# Altium footprint library General.PcbLib: 39 footprints (part 2 of 3)
Each footprint in its own frame and in the unit in brackets; x right, y up, seen from the top. Pads: shape width x height; smd on the part's side, far side on the other; paste and mask are expansions set on the pad; w line width, h text height; cw(c..) or ccw(c..) is an arc to the next point about the centre after c.
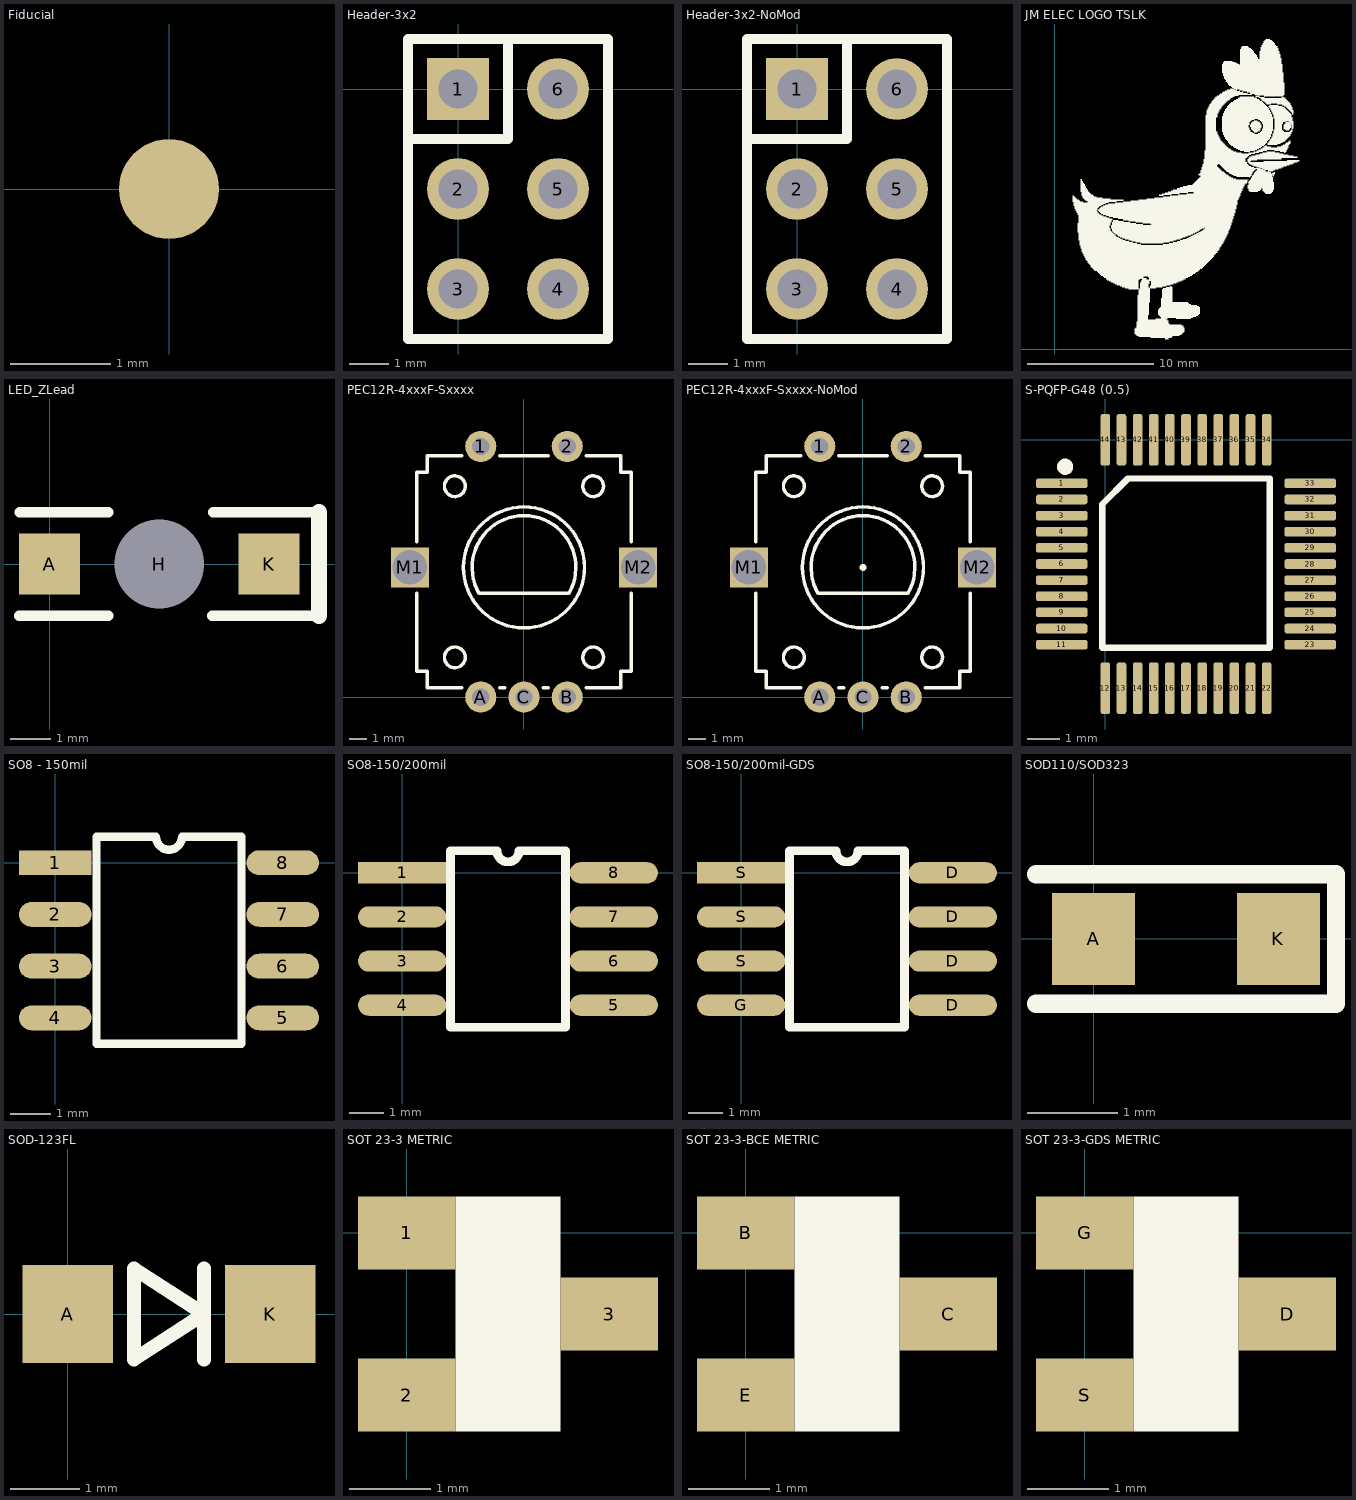
[diagram p1: the footprints below, top view; thin cyan lines are the x and y axes]

## Fiducial [mm]
pads (1):
  round 1 smd paste-1 mask+0.5: ""(0,0)
Top Solder:
  rectangle: -1.5,-1.5 1.5,1.5

## Header-3x2 [mil] "0.1 Inch Header, 2 Row, 3 Way"
pads (6):
  rect 62x62 hole 39: 1(0,0)
  round 62 hole 39: 2(0,-100) 3(0,-200) 4(100,-200) 5(100,-100) 6(100,0)
Top Overlay:
  lines w10: -50,-50 50,-50 50,50 ; 50,50 150,50 150,-250 -50,-250 -50,50 50,50
3D body "User Library-2x3 TH Pitch 2_54mm.STEP": height 362.2, standoff -137.8, extent -51,-251 149,49

## Header-3x2-NoMod [mil] "0.1 Inch Header, 2 Row, 3 Way"
pads (6):
  rect 62x62 hole 39: 1(0,0)
  round 62 hole 39: 2(0,-100) 3(0,-200) 4(100,-200) 5(100,-100) 6(100,0)
Top Overlay:
  lines w10: -50,-50 50,-50 50,50 ; 50,50 -50,50 -50,-250 150,-250 150,50 50,50
3D body "User Library-2x3 TH Pitch 2_54mm.STEP": height 362.2, standoff -137.8, extent -51,-251 149,49

## JM ELEC LOGO TSLK [mm] "JM LOGO on top silk layer"
Top Overlay:
  drawing of 4 lines, arcs and shapes, not listed

## LED_ZLead [mm] "5.4mm Pad Cen-Cen, 1.5mmx1.5mm Pad size"
pads (3):
  rect 1.5x1.5 smd: A(0,0) K(5.4,0)
  round 1.524 hole 2.2 unplated: H(2.7,0)
Top Overlay:
  lines w0.254: -0.75,-1.27 1.45,-1.27 ; -0.73,1.27 1.45,1.27 ; 4,-1.27 6.625,-1.27 ; 4.02,1.27 6.625,1.27
  lines w0.4: 6.625,-1.27 6.625,1.27
3D body "AM2520-9.STEP": height 1.4, standoff -1.4, extent -0.15,-1 5.65,1

## PEC12R-4xxxF-Sxxxx [mm] "Burns 12mmx13mm rotary encoder, vertical, with switch"
pads (7):
  round 1.8 hole 1: 1(-2.5,14.5) 2(2.5,14.5) A(-2.5,0) B(2.5,0) C(0,0)
  rect 2.2x2.3 hole 2 square: M1(-6.6,7.5) M2(6.6,7.5)
Top Overlay:
  circle w0.2: c-4,12.2 r0.6
  circle w0.2: c4,12.2 r0.6
  circle w0.2: c4,2.3 r0.6
  circle w0.2: c-4,2.3 r0.6
  circle w0.2: c0,7.5 r3.5
  region: -4.4,2.4
  region: -9.6,16.3
  lines w0.2: -6.2,6.003 -6.2,1.5 -5.6,1.5 -5.6,0.55 -3.6,0.55 ; -6.2,9 -6.2,13 -5.6,13 -5.6,13.95 -3.6,13.95 ; -2.596,5.996 cw(c0,7.5) 2.6,6.003 ; -2.596,6 2.6,6 ; -1.4,0.55 -1.1,0.55 ; -1.4,13.95 1.4,13.95 ; 1.1,0.55 1.4,0.55 ; 3.6,0.55 5.6,0.55 5.6,1.5 6.2,1.5 6.2,6.003 ; 3.6,13.95 5.6,13.95 5.6,13 6.2,13 6.2,9
3D body "pec12r-4x20f-sxxxx.stp": height 20.05, standoff -3.45, extent -7,-0.1 7,14.65

## PEC12R-4xxxF-Sxxxx-NoMod [mm] "Burns 12mmx13mm rotary encoder, vertical, with switch"
pads (7):
  round 1.8 hole 1: 1(-2.5,14.5) 2(2.5,14.5) A(-2.5,0) B(2.5,0) C(0,0)
  rect 2.2x2.3 hole 2 square: M1(-6.6,7.5) M2(6.6,7.5)
Top Overlay:
  circle w0.2: c0,7.5 r3.5
  circle w0.2: c-4,2.3 r0.6
  circle w0.2: c4,2.3 r0.6
  circle w0.2: c4,12.2 r0.6
  circle w0.2: c-4,12.2 r0.6
  circle w0.2: c0,7.5 r0.1
  region: -9.6,16.3
  region: -4.4,2.4
  lines w0.2: -6.2,6.003 -6.2,1.5 -5.6,1.5 -5.6,0.55 -3.6,0.55 ; -6.2,9 -6.2,13 -5.6,13 -5.6,13.95 -3.6,13.95 ; -2.596,5.996 cw(c0,7.5) 2.6,6.003 ; -2.596,6 2.6,6 ; -1.4,0.55 -1.1,0.55 ; -1.4,13.95 1.4,13.95 ; 1.1,0.55 1.4,0.55 ; 3.6,0.55 5.6,0.55 5.6,1.5 6.2,1.5 6.2,6.003 ; 3.6,13.95 5.6,13.95 5.6,13 6.2,13 6.2,9
3D body: height 0.1, standoff 0, extent -0.198,7.301 0.2,7.7

## S-PQFP-G48 (0.5) [mm] "Plastic Quad Flat Pack 100-pin"
height 1.45
pads (44):
  rrect50% 1.6x0.3 smd paste-0.025 mask+0.05: 1(-1.35,-1.35) 2(-1.35,-1.85) 3(-1.35,-2.35) 4(-1.35,-2.85) 5(-1.35,-3.35) 6(-1.35,-3.85) 7(-1.35,-4.35) 8(-1.35,-4.85) 9(-1.35,-5.35) 10(-1.35,-5.85) 11(-1.35,-6.35) 23(6.35,-6.35) 24(6.35,-5.85) 25(6.35,-5.35) 26(6.35,-4.85) 27(6.35,-4.35) 28(6.35,-3.85) 29(6.35,-3.35) 30(6.35,-2.85) 31(6.35,-2.35) 32(6.35,-1.85) 33(6.35,-1.35)
  rrect50% 0.3x1.6 smd paste-0.025 mask+0.05: 12(0,-7.7) 13(0.5,-7.7) 14(1,-7.7) 15(1.5,-7.7) 16(2,-7.7) 17(2.5,-7.7) 18(3,-7.7) 19(3.5,-7.7) 20(4,-7.7) 21(4.5,-7.7) 22(5,-7.7) 34(5,0) 35(4.5,0) 36(4,0) 37(3.5,0) 38(3,0) 39(2.5,0) 40(2,0) 41(1.5,0) 42(1,0) 43(0.5,0) 44(0,0)
Top Overlay:
  circle w0.25: c-1.246,-0.836 r0.125
  lines w0.2: 0.7,-1.2 5.1,-1.2 5.1,-6.45 -0.1,-6.45 -0.1,-2 0.7,-1.2 ; 0.7,-1.2 0.7,-1.2
3D body "User Library-TQFP-44-1.STEP": height 1.1, standoff 0, extent -15.45,-9.5 -3.45,2.5

## SO8 - 150mil [mil]
pads (8):
  rect 70x24 smd: 1(0,0)
  oval 70x24 smd: 2(0,-50) 3(0,-100) 4(0,-150) 5(220,-150) 6(220,-100) 7(220,-50) 8(220,0)
Top Overlay:
  lines w8: 40,-175 180,-175 180,25 122.5,25 cw(c110,25) 97.5,25 40,25 40,-175
3D body "User Library-so8-3.STEP": height 66.93, standoff 0, extent -7.87,-172.24 228.35,20.68

## SO8-150/200mil [mil]
pads (8):
  rect 100x24 smd: 1(0,0)
  oval 100x24 smd: 2(0,-50) 3(0,-100) 4(0,-150) 5(240,-150) 6(240,-100) 7(240,-50) 8(240,0)
Top Overlay:
  lines w10: 55,-175 55,25 107.5,25 ccw(c120,25) 132.5,25 185,25 185,-175 55,-175
3D body "D0008A.stp": height 63.98, standoff 0, extent 1.98,-171.26 238.19,21.65

## SO8-150/200mil-GDS [mil]
pads (8):
  oval 100x24 smd: D(240,-150) D(240,-100) D(240,-50) D(240,0) G(0,-150) S(0,-100) S(0,-50)
  rect 100x24 smd: S(0,0)
Top Overlay:
  lines w10: 55,-175 185,-175 185,25 132.5,25 cw(c120,25) 107.5,25 55,25 55,-175
3D body "D0008A.stp": height 63.98, standoff 0, extent 1.98,-171.26 238.19,21.65

## SOD110/SOD323 [mil]
pads (2):
  rect 36x40 smd: A(0,0) K(80,0)
Top Overlay:
  lines w8: -25,-28 105,-28 105,28 -25,28
3D body "User Library-SOD323F-1.STEP": height 39.37, standoff 0, extent -9.72,-26.58 88.71,26.57

## SOD-123FL [mm]
pads (2):
  rect 1.3x1.4 smd mask+0.07: A(0,0) K(2.9,0)
Top Overlay:
  lines w0.2: 1.95,-0.65 1.95,0.65 ; 0.95,-0.65 0.95,0.65 1.95,0 0.95,-0.65
3D body "User Library-SOD-123FL CASE 498.STEP": height 0.95, standoff 0, extent -0.35,-0.825 3.25,0.825

## SOT 23-3 METRIC [mm] "Small Outline Transistor"
height 1
pads (3):
  rect 1.2x0.9 smd: 1(0,0) 2(0,-2) 3(2.5,-1)
Top Overlay:
  rectangle: 0.6,-2.45 1.9,0.45
3D body "User Library-SOT23-3.STEP": height 1.3, standoff 0, extent -0.15,-2.45 2.65,0.45

## SOT 23-3-BCE METRIC [mm]
pads (3):
  rect 1.2x0.9 smd: B(0,0) C(2.5,-1) E(0,-2)
Top Overlay:
  rectangle: 0.6,-2.45 1.9,0.45
3D body "User Library-SOT23-3.STEP": height 1.3, standoff 0, extent -0.15,-2.45 2.65,0.45

## SOT 23-3-GDS METRIC [mm] "Small Outline Transistor"
height 1
pads (3):
  rect 1.2x0.9 smd: D(2.5,-1) G(0,0) S(0,-2)
Top Overlay:
  rectangle: 0.6,-2.45 1.9,0.45
3D body "User Library-SOT23-3.STEP": height 1.3, standoff 0, extent -0.15,-2.45 2.65,0.45